# EAGLE library part MCU_CH32V003 (library OneDollarBoard.com.1.004.r1)
IPN: 6 LCSC: C5299908
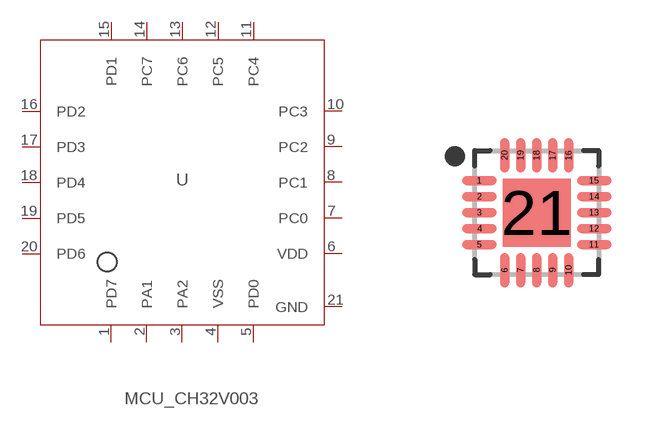
[diagram p3: symbol with the pads of CH32V003F4U6; footprint CH32V003F4U6]

Designator prefix -

## MCU_CH32V003 (CATEGORY: MCU; DATASHEET: https://www.lcsc.com/datasheet/C5299908.pdf; IPN: 6; LCSC_PART: C5299908; MANUFACTURER: WCH; MFR_PART: CH32V003F4U6; ODB_REV: 1.004; PACKAGE: QFN20 3x3mm; VALUE: CH32V003F4U6)  [CH32V003F4U6]
1  PD7
2  PA1
3  PA2
4  VSS
5  PD0
6  VDD
7  PC0
8  PC1
9  PC2
10  PC3
11  PC4
12  PC5
13  PC6
14  PC7
15  PD1
16  PD2
17  PD3
18  PD4
19  PD5  pwr
20  PD6
21  GND

## Footprint CH32V003F4U6 (pad centres in mm)
20-QFN, 0.40 mm pitch, 3.00 X 3.00 X 0.80 mm body, 1.70 X 1.70 mm thermal pad 20-pin QFN package with 0.40 mm pitch with body size 3.00 X 3.00 X 0.80 mm and thermal pad size 1.70 X 1.70 mm
smd 0.862 x 0.224: 1 -1.435,0.8; 2 -1.435,0.4; 3 -1.435,0; 4 -1.435,-0.4; 5 -1.435,-0.8; 11 1.435,-0.8; 12 1.435,-0.4; 13 1.435,0; 14 1.435,0.4; 15 1.435,0.8
smd 0.224 x 0.862: 6 -0.8,-1.435; 7 -0.4,-1.435; 8 0,-1.435; 9 0.4,-1.435; 10 0.8,-1.435; 16 0.8,1.435; 17 0.4,1.435; 18 0,1.435; 19 -0.4,1.435; 20 -0.8,1.435
smd 1.7 x 1.7: 21 0,0